# Altium footprint library IC.PcbLib: 67 footprints (part 4 of 5)
Each footprint in its own frame and in the unit in brackets; x right, y up, seen from the top. Pads: shape width x height; smd on the part's side, far side on the other; paste and mask are expansions set on the pad; w line width, h text height; cw(c..) or ccw(c..) is an arc to the next point about the centre after c.
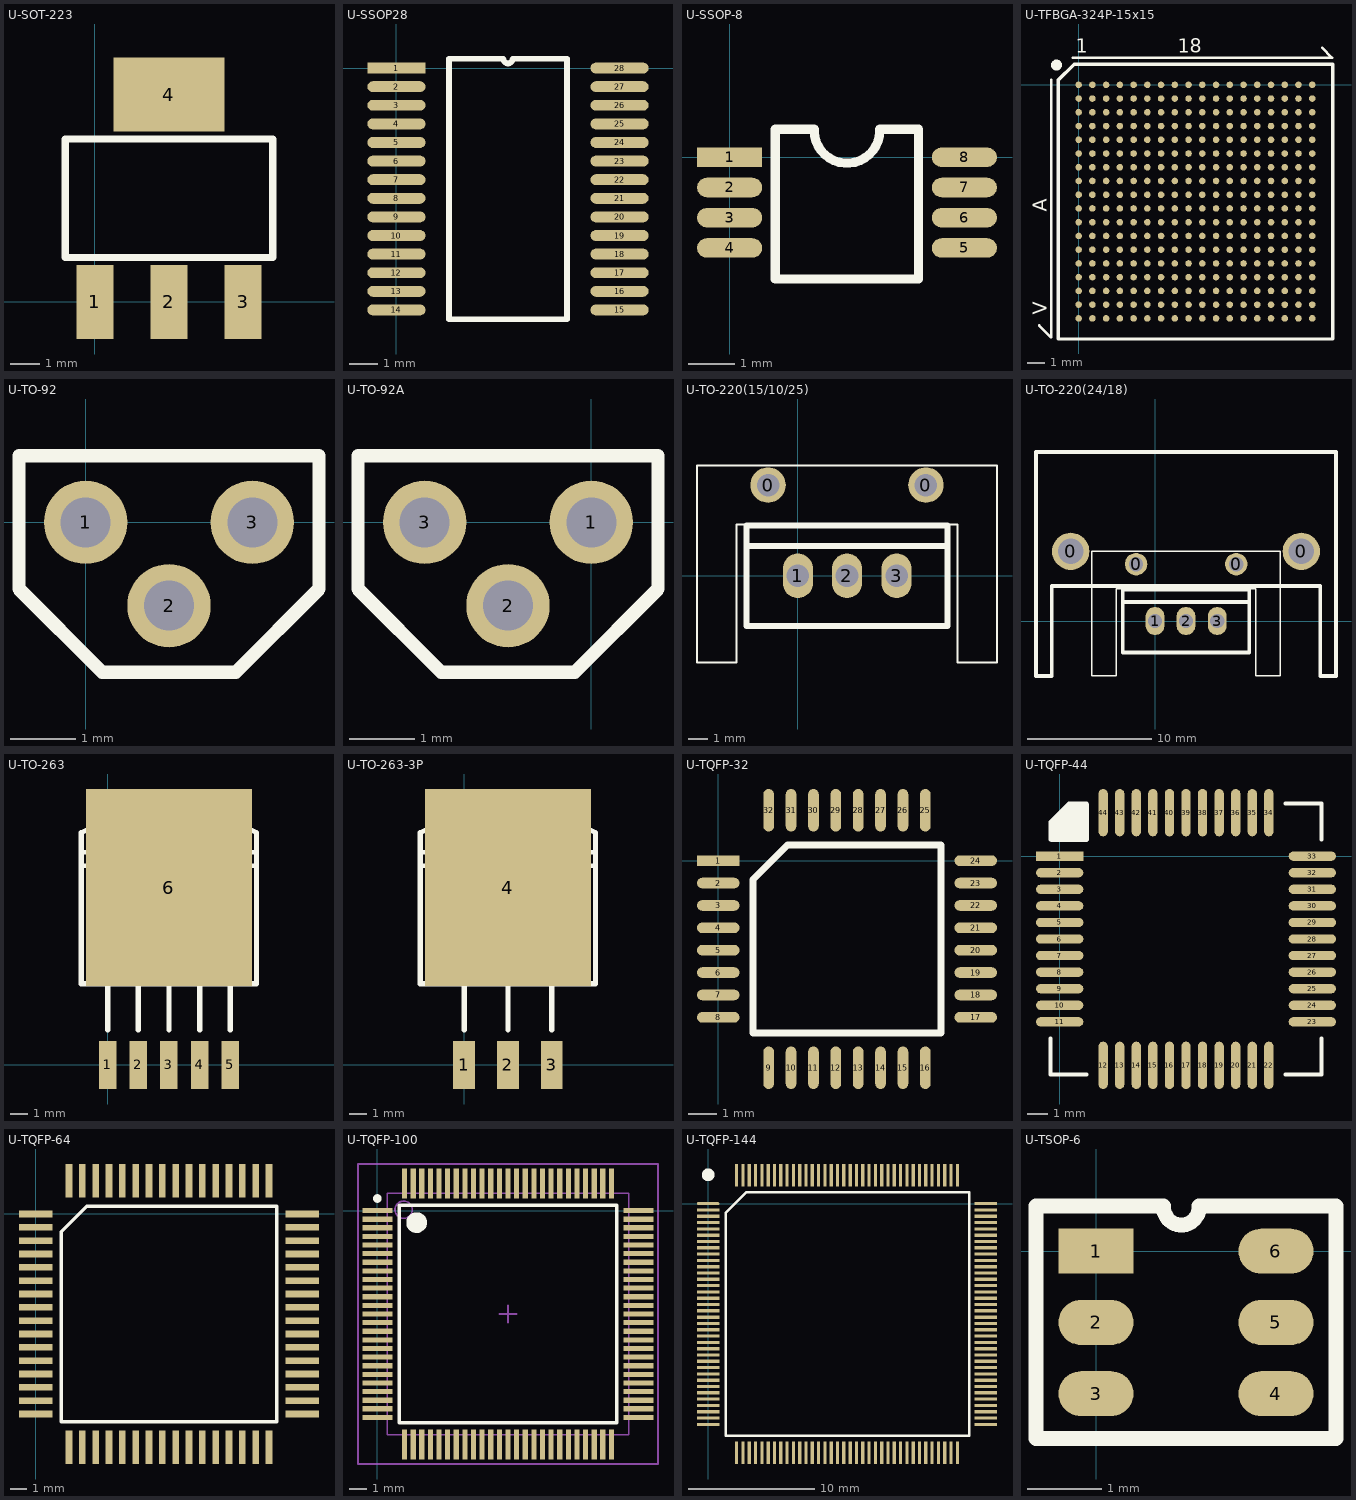
[diagram p3: the footprints below, top view; thin cyan lines are the x and y axes]

## U-SOT-223 [mil]
pads (4):
  rect 50x100 smd: 1(0,0) 2(100,0) 3(200,0)
  rect 150x100 smd: 4(100,280)
Top Overlay:
  lines w10: -40,60 240,60 240,220 -40,220 -40,60
3D body: height 50, standoff 3, extent -36,70 234,210
3D body: height 10, standoff 0, extent -18,-15 16,75
3D body: height 10, standoff 0, extent 82,-15 116,75
3D body: height 10, standoff 0, extent 182,-15 216,75
3D body: height 10, standoff 0, extent 44,205 154,295

## U-SSOP28 [mil]
pads (28):
  rect 80x15 smd: 1(0,0)
  oval 80x15 smd: 2(0,-25.59) 3(0,-51.18) 4(0,-76.77) 5(0,-102.36) 6(0,-127.95) 7(0,-153.54) 8(0,-179.13) 9(0,-204.72) 10(0,-230.32) 11(0,-255.91) 12(0,-281.5) 13(0,-307.09) 14(0,-332.68) 15(307.09,-332.68) 16(307.09,-307.09) 17(307.09,-281.5) 18(307.09,-255.91) 19(307.09,-230.32) 20(307.09,-204.72) 21(307.09,-179.13) 22(307.09,-153.54) 23(307.09,-127.95) 24(307.09,-102.36) 25(307.09,-76.77) 26(307.09,-51.18) 27(307.09,-25.59) 28(307.09,0)
Top Overlay:
  lines w7.87: 72.24,-345.47 234.84,-345.47 234.84,12.8 159.94,12.8 cw(c153.54,12.8) 147.15,12.8 72.24,12.8 72.24,-345.47
3D body: height 59.06, standoff 3.94, extent 72.24,-345.47 234.84,12.8
3D body: height 10, standoff 0, extent -8.5,-6.5 76.5,6.5
3D body: height 10, standoff 0, extent -8.5,-31.5 76.5,-18.5
3D body: height 10, standoff 0, extent -8.5,-57.5 76.5,-44.5
3D body: height 10, standoff 0, extent -8.5,-83.5 76.5,-70.5
3D body: height 10, standoff 0, extent -8.5,-108.5 76.5,-95.5
3D body: height 10, standoff 0, extent -8.5,-133.5 76.5,-120.5
3D body: height 10, standoff 0, extent -8.5,-159.5 76.5,-146.5
3D body: height 10, standoff 0, extent -8.5,-185.5 76.5,-172.5
3D body: height 10, standoff 0, extent -8.5,-210.5 76.5,-197.5
3D body: height 10, standoff 0, extent -8.5,-236.5 76.5,-223.5
3D body: height 10, standoff 0, extent -8.5,-262.5 76.5,-249.5
3D body: height 10, standoff 0, extent -8.5,-287.5 76.5,-274.5
3D body: height 10, standoff 0, extent -8.5,-313.5 76.5,-300.5
3D body: height 10, standoff 0, extent -8.5,-339.5 76.5,-326.5
3D body: height 10, standoff 0, extent 229.5,-339.5 314.5,-326.5
3D body: height 10, standoff 0, extent 229.5,-313.5 314.5,-300.5
3D body: height 10, standoff 0, extent 229.5,-287.5 314.5,-274.5
3D body: height 10, standoff 0, extent 229.5,-261.5 314.5,-248.5
3D body: height 10, standoff 0, extent 229.5,-236.5 314.5,-223.5
3D body: height 10, standoff 0, extent 229.5,-210.5 314.5,-197.5
3D body: height 10, standoff 0, extent 229.5,-185.5 314.5,-172.5
3D body: height 10, standoff 0, extent 229.5,-159.5 314.5,-146.5
3D body: height 10, standoff 0, extent 229.5,-133.5 314.5,-120.5
3D body: height 10, standoff 0, extent 229.5,-108.5 314.5,-95.5
3D body: height 10, standoff 0, extent 229.5,-82.5 314.5,-69.5
3D body: height 10, standoff 0, extent 229.5,-57.5 314.5,-44.5
3D body: height 10, standoff 0, extent 229.5,-31.5 314.5,-18.5
3D body: height 10, standoff 0, extent 229.5,-6.5 314.5,6.5

## U-SSOP-8 [mm]
pads (8):
  rect 1.4x0.42 smd: 1(0,0)
  oval 1.4x0.42 smd: 2(0,-0.65) 3(0,-1.3) 4(0,-1.95) 5(5.05,-1.95) 6(5.05,-1.3) 7(5.05,-0.65) 8(5.05,0)
Top Overlay:
  lines w0.2: 1.819,0.579 ccw(c2.525,0.579) 3.231,0.579 ; 1.819,0.6 0.985,0.6 0.985,-2.616 4.064,-2.616 4.064,0.6 3.231,0.6
3D body "mua08a.stp": height 0.84, standoff -0.12, extent 0.064,-2.464 4.966,0.533

## U-TFBGA-324P-15x15 [mil]
pads (324):
  round 15 smd: A1(0,0) A2(31.5,0) A3(62.99,0) A4(94.49,0) A5(125.98,0) A6(157.48,0) A7(188.98,0) A8(220.47,0) A9(251.97,0) A10(283.46,0) A11(314.96,0) A12(346.46,0) A13(377.95,0) A14(409.45,0) A15(440.95,0) A16(472.44,0) A17(503.94,0) A18(535.43,0) B1(0,-31.5) B2(31.5,-31.5) B3(62.99,-31.5) B4(94.49,-31.5) B5(125.98,-31.5) B6(157.48,-31.5) B7(188.98,-31.5) B8(220.47,-31.5) B9(251.97,-31.5) B10(283.46,-31.5) B11(314.96,-31.5) B12(346.46,-31.5) B13(377.95,-31.5) B14(409.45,-31.5) B15(440.95,-31.5) B16(472.44,-31.5) B17(503.94,-31.5) B18(535.43,-31.5) C1(0,-62.99) C2(31.5,-62.99) C3(62.99,-62.99) C4(94.49,-62.99) C5(125.98,-62.99) C6(157.48,-62.99) C7(188.98,-62.99) C8(220.47,-62.99) C9(251.97,-62.99) C10(283.46,-62.99) C11(314.96,-62.99) C12(346.46,-62.99) C13(377.95,-62.99) C14(409.45,-62.99) C15(440.95,-62.99) C16(472.44,-62.99) C17(503.94,-62.99) C18(535.43,-62.99) D1(0,-94.49) D2(31.5,-94.49) D3(62.99,-94.49) D4(94.49,-94.49) D5(125.98,-94.49) D6(157.48,-94.49) D7(188.98,-94.49) D8(220.47,-94.49) D9(251.97,-94.49) D10(283.46,-94.49) D11(314.96,-94.49) D12(346.46,-94.49) D13(377.95,-94.49) D14(409.45,-94.49) D15(440.95,-94.49) D16(472.44,-94.49) D17(503.94,-94.49) D18(535.43,-94.49) E1(0,-125.98) E2(31.5,-125.98) E3(62.99,-125.98) E4(94.49,-125.98) E5(125.98,-125.98) E6(157.48,-125.98) E7(188.98,-125.98) E8(220.47,-125.98) E9(251.97,-125.98) E10(283.46,-125.98) E11(314.96,-125.98) E12(346.46,-125.98) E13(377.95,-125.98) E14(409.45,-125.98) E15(440.95,-125.98) E16(472.44,-125.98) E17(503.94,-125.98) E18(535.43,-125.98) F1(0,-157.48) F2(31.5,-157.48) F3(62.99,-157.48) F4(94.49,-157.48) F5(125.98,-157.48) F6(157.48,-157.48) F7(188.98,-157.48) F8(220.47,-157.48) F9(251.97,-157.48) F10(283.46,-157.48) F11(314.96,-157.48) F12(346.46,-157.48) F13(377.95,-157.48) F14(409.45,-157.48) F15(440.95,-157.48) F16(472.44,-157.48) F17(503.94,-157.48) F18(535.43,-157.48) G1(0,-188.98) G2(31.5,-188.98) G3(62.99,-188.98) G4(94.49,-188.98) G5(125.98,-188.98) G6(157.48,-188.98) G7(188.98,-188.98) G8(220.47,-188.98) G9(251.97,-188.98) G10(283.46,-188.98) G11(314.96,-188.98) G12(346.46,-188.98) G13(377.95,-188.98) G14(409.45,-188.98) G15(440.95,-188.98) G16(472.44,-188.98) G17(503.94,-188.98) G18(535.43,-188.98) H1(0,-220.47) H2(31.5,-220.47) H3(62.99,-220.47) H4(94.49,-220.47) H5(125.98,-220.47) H6(157.48,-220.47) H7(188.98,-220.47) H8(220.47,-220.47) H9(251.97,-220.47) H10(283.46,-220.47) H11(314.96,-220.47) H12(346.46,-220.47) H13(377.95,-220.47) H14(409.45,-220.47) H15(440.95,-220.47) H16(472.44,-220.47) H17(503.94,-220.47) H18(535.43,-220.47) J1(0,-251.97) J2(31.5,-251.97) J3(62.99,-251.97) J4(94.49,-251.97) J5(125.98,-251.97) J6(157.48,-251.97) J7(188.98,-251.97) J8(220.47,-251.97) J9(251.97,-251.97) J10(283.46,-251.97) J11(314.96,-251.97) J12(346.46,-251.97) J13(377.95,-251.97) J14(409.45,-251.97) J15(440.95,-251.97) J16(472.44,-251.97) J17(503.94,-251.97) J18(535.43,-251.97) K1(0,-283.46) K2(31.5,-283.46) K3(62.99,-283.46) K4(94.49,-283.46) K5(125.98,-283.46) K6(157.48,-283.46) K7(188.98,-283.46) K8(220.47,-283.46) K9(251.97,-283.46) K10(283.46,-283.46) K11(314.96,-283.46) K12(346.46,-283.46) K13(377.95,-283.46) K14(409.45,-283.46) K15(440.95,-283.46) K16(472.44,-283.46) K17(503.94,-283.46) K18(535.43,-283.46) L1(0,-314.96) L2(31.5,-314.96) L3(62.99,-314.96) L4(94.49,-314.96) L5(125.98,-314.96) L6(157.48,-314.96) L7(188.98,-314.96) L8(220.47,-314.96) L9(251.97,-314.96) L10(283.46,-314.96) L11(314.96,-314.96) L12(346.46,-314.96) L13(377.95,-314.96) L14(409.45,-314.96) L15(440.95,-314.96) L16(472.44,-314.96) L17(503.94,-314.96) L18(535.43,-314.96) M1(0,-346.46) M2(31.5,-346.46) M3(62.99,-346.46) M4(94.49,-346.46) M5(125.98,-346.46) M6(157.48,-346.46) M7(188.98,-346.46) M8(220.47,-346.46) M9(251.97,-346.46) M10(283.46,-346.46) M11(314.96,-346.46) M12(346.46,-346.46) M13(377.95,-346.46) M14(409.45,-346.46) M15(440.95,-346.46) M16(472.44,-346.46) M17(503.94,-346.46) M18(535.43,-346.46) N1(0,-377.95) N2(31.5,-377.95) N3(62.99,-377.95) N4(94.49,-377.95) N5(125.98,-377.95) N6(157.48,-377.95) N7(188.98,-377.95) N8(220.47,-377.95) N9(251.97,-377.95) N10(283.46,-377.95) N11(314.96,-377.95) N12(346.46,-377.95) N13(377.95,-377.95) N14(409.45,-377.95) N15(440.95,-377.95) N16(472.44,-377.95) N17(503.94,-377.95) N18(535.43,-377.95) P1(0,-409.45) P2(31.5,-409.45) P3(62.99,-409.45) P4(94.49,-409.45) P5(125.98,-409.45) P6(157.48,-409.45) P7(188.98,-409.45) P8(220.47,-409.45) P9(251.97,-409.45) P10(283.46,-409.45) P11(314.96,-409.45) P12(346.46,-409.45) P13(377.95,-409.45) P14(409.45,-409.45) P15(440.95,-409.45) P16(472.44,-409.45) P17(503.94,-409.45) P18(535.43,-409.45) R1(0,-440.95) R2(31.5,-440.95) R3(62.99,-440.95) R4(94.49,-440.95) R5(125.98,-440.95) R6(157.48,-440.95) R7(188.98,-440.95) R8(220.47,-440.95) R9(251.97,-440.95) R10(283.46,-440.95) R11(314.96,-440.95) R12(346.46,-440.95) R13(377.95,-440.95) R14(409.45,-440.95) R15(440.95,-440.95) R16(472.44,-440.95) R17(503.94,-440.95) R18(535.43,-440.95) T1(0,-472.44) T2(31.5,-472.44) T3(62.99,-472.44) T4(94.49,-472.44) T5(125.98,-472.44) T6(157.48,-472.44) T7(188.98,-472.44) T8(220.47,-472.44) T9(251.97,-472.44) T10(283.46,-472.44) T11(314.96,-472.44) T12(346.46,-472.44) T13(377.95,-472.44) T14(409.45,-472.44) T15(440.95,-472.44) T16(472.44,-472.44) T17(503.94,-472.44) T18(535.43,-472.44) U1(0,-503.94) U2(31.5,-503.94) U3(62.99,-503.94) U4(94.49,-503.94) U5(125.98,-503.94) U6(157.48,-503.94) U7(188.98,-503.94) U8(220.47,-503.94) U9(251.97,-503.94) U10(283.46,-503.94) U11(314.96,-503.94) U12(346.46,-503.94) U13(377.95,-503.94) U14(409.45,-503.94) U15(440.95,-503.94) U16(472.44,-503.94) U17(503.94,-503.94) U18(535.43,-503.94) V1(0,-535.43) V2(31.5,-535.43) V3(62.99,-535.43) V4(94.49,-535.43) V5(125.98,-535.43) V6(157.48,-535.43) V7(188.98,-535.43) V8(220.47,-535.43) V9(251.97,-535.43) V10(283.46,-535.43) V11(314.96,-535.43) V12(346.46,-535.43) V13(377.95,-535.43) V14(409.45,-535.43) V15(440.95,-535.43) V16(472.44,-535.43) V17(503.94,-535.43) V18(535.43,-535.43)
Top Overlay:
  circle w15: c-50.76,45.28 r5
  lines w6: -90.5,-551.5 -63,-579 -63,11 ; -13,62 581,62 558,85
  lines w8: -47.24,-582.68 582.68,-582.68 582.68,47.24 -10.32,47.24 -47.24,10.32 -47.24,-582.68
  text "V               A" at -73,-527 h32
  text "1               18" at -7,73 h32
3D body: height 39.37, standoff 0, extent -39.28,-572.72 572.72,37.28

## U-TO-92 [mil]
pads (3):
  round 50 hole 30: 1(0,0) 2(50,-50) 3(100,0)
Top Overlay:
  lines w8: -40,-40 -40,40 140,40 140,-40 90,-90 10,-90 -40,-40
3D body: height 300, standoff 200, extent -40,-70 141,30
3D body: height 210, standoff -20, extent 90,-9.92 109.96,10
3D body: height 210, standoff -20, extent -10,-9.92 9.96,10
3D body: height 204.75, standoff -22.57, extent 40.04,-80 60,-1.23

## U-TO-92A [mil]
pads (3):
  round 50 hole 30: 1(0,0) 2(-50,-50) 3(-100,0)
Top Overlay:
  lines w8: -140,-40 -140,40 40,40 40,-40 -10,-90 -90,-90 -140,-40
3D body: height 204.75, standoff -22.57, extent -59.96,-80 -40,-1.23
3D body: height 210, standoff -20, extent -110,-9.92 -90.04,10
3D body: height 210, standoff -20, extent -10,-9.92 9.96,10
3D body: height 300, standoff 200, extent -140,-70 41,30

## U-TO-220(15/10/25) [mil]
pads (5):
  round 70.87 hole 45: 0(-59.48,181.1) 0(255.48,181.1)
  oval 60x89 hole 45: 1(0,0) 2(98,0) 3(197,0)
Top Overlay:
  lines w4: -201.21,-173.23 -201.21,220.47 397.21,220.47 397.21,-173.23 318.47,-173.23 318.47,102.36 -122.47,102.36 -122.47,-173.23 -201.21,-173.23
  lines w12: -102,60 298,60 ; -102,-100 -102,100 298,100 298,-100 -102,-100
3D body: height 984.25, standoff 0, extent -201.19,-173.21 397.19,220.45
3D body: height 550, standoff 150, extent -101,-79 299,101
3D body: height 850, standoff 550, extent -101,61 299,101
3D body: height 150, standoff -40, extent -21,-4 19,6
3D body: height 150, standoff -40, extent 77,-4 117,6
3D body: height 150, standoff -40, extent 176,-4 216,6

## U-TO-220(24/18) [mil]
pads (7):
  round 118.11 hole 80: 0(-267,220.5) 0(463,220.5)
  round 70.87 hole 45: 0(-60,180) 0(257,180)
  oval 60x89 hole 45: 1(0,0) 2(98,0) 3(197,0)
Top Overlay:
  lines w4: -201.21,-173.23 -122.47,-173.23 -122.47,102.36 318.47,102.36 318.47,-173.23 397.21,-173.23 397.21,220.47 -201.21,220.47 -201.21,-173.23
  lines w12: -102,-100 298,-100 ; -102,-100 -102,100 ; -102,-100 298,-100 ; -102,-100 -102,100 ; -102,100 298,100 ; -102,100 298,100 ; 298,-100 298,100 ; 298,-100 298,100 ; -377,-174.5 -377,535.5 573,535.5 573,-174.5 523,-174.5 523,110.5 -327,110.5 -327,-174.5 -377,-174.5 ; -102,60 298,60 -102,60
3D body: height 150, standoff -40, extent 176,-4 216,6
3D body: height 150, standoff -40, extent 77,-4 117,6
3D body: height 150, standoff -40, extent -21,-4 19,6
3D body: height 850, standoff 550, extent -101,61 299,101
3D body: height 550, standoff 150, extent -101,-79 299,101
3D body: height 984.25, standoff 0, extent -201.19,-173.21 397.19,220.45
3D body: height 984.25, standoff 0, extent -380,-169.96 569.96,540
3D body: height 150, standoff -40, extent 176,-4 216,6
3D body: height 150, standoff -40, extent 77,-4 117,6
3D body: height 150, standoff -40, extent -21,-4 19,6
3D body: height 850, standoff 550, extent -101,61 299,101
3D body: height 550, standoff 150, extent -101,-79 299,101

## U-TO-263 [mil]
pads (6):
  rect 40x110 smd: 1(0,0) 2(70,0) 3(140,0) 4(210,0) 5(280,0)
  rect 380x450 smd: 6(140.07,404.76)
Top Overlay:
  circle w10: c8.79,260 r21.21
  lines w10: -60,455 340,455 ; -60,485 340,485
  lines w12: 0,80 0,180 ; 70,80 70,180 ; 140,80 140,180 ; 210,80 210,180 ; 280,80 280,180 ; -60,185 340,185 340,530 270,565 10,565 -60,530 -60,185
3D body: height 10, standoff 0, extent 265,-14 296,191
3D body: height 10, standoff 0, extent 195.5,-14 226.5,191
3D body: height 10, standoff 0, extent 125,-14 156,191
3D body: height 10, standoff 0, extent 54.5,-14.5 85.5,190.5
3D body: height 59.06, standoff 3.94, extent -60,185 340,565
3D body: height 10, standoff 0, extent -15,-14 16,191

## U-TO-263-3P [mil]
pads (4):
  rect 50x110 smd: 1(0,0) 2(100,0) 3(200,0)
  rect 380x450 smd: 4(100.07,404.76)
Top Overlay:
  circle w10: c-31.21,260 r21.21
  lines w10: -100,455 300,455 ; -100,485 300,485
  lines w12: 0,80 0,180 ; 100,80 100,180 ; 200,80 200,180 ; -100,185 300,185 300,530 230,565 -30,565 -100,530 -100,185
3D body: height 10, standoff 0, extent 185,-14 216,191
3D body: height 10, standoff 0, extent 85,-14 116,191
3D body: height 59.06, standoff 3.94, extent -100,185 300,565
3D body: height 10, standoff 0, extent -15,-14 16,191

## U-TQFP-32 [mil]
pads (32):
  rect 60x15 smd: 1(0,0)
  oval 60x15 smd: 2(0,-31.5) 3(0,-62.99) 4(0,-94.49) 5(0,-125.98) 6(0,-157.48) 7(0,-188.98) 8(0,-220.47) 17(362.2,-220.47) 18(362.2,-188.98) 19(362.2,-157.48) 20(362.2,-125.98) 21(362.2,-94.49) 22(362.2,-62.99) 23(362.2,-31.5) 24(362.2,0)
  oval 15x60 smd: 9(70.87,-291.34) 10(102.36,-291.34) 11(133.86,-291.34) 12(165.35,-291.34) 13(196.85,-291.34) 14(228.35,-291.34) 15(259.84,-291.34) 16(291.34,-291.34) 25(291.34,70.87) 26(259.84,70.87) 27(228.35,70.87) 28(196.85,70.87) 29(165.35,70.87) 30(133.86,70.87) 31(102.36,70.87) 32(70.87,70.87)
Top Overlay:
  lines w10: 48.62,-242.72 48.62,-26.38 97.24,22.24 313.58,22.24 313.58,-242.72 48.62,-242.72
3D body: height 59.06, standoff 3.94, extent 0,-291 363,71

## U-TQFP-44 [mm]
pads (44):
  rect 2.286x0.45 smd: 1(0,0)
  oval 2.286x0.45 smd: 2(0,-0.8) 3(0,-1.6) 4(0,-2.4) 5(0,-3.2) 6(0,-4) 7(0,-4.8) 8(0,-5.6) 9(0,-6.4) 10(0,-7.2) 11(0,-8) 23(12.2,-8) 24(12.2,-7.2) 25(12.2,-6.4) 26(12.2,-5.6) 27(12.2,-4.8) 28(12.2,-4) 29(12.2,-3.2) 30(12.2,-2.4) 31(12.2,-1.6) 32(12.2,-0.8) 33(12.2,0)
  oval 0.45x2.286 smd: 12(2.1,-10.1) 13(2.9,-10.1) 14(3.7,-10.1) 15(4.5,-10.1) 16(5.3,-10.1) 17(6.1,-10.1) 18(6.9,-10.1) 19(7.7,-10.1) 20(8.5,-10.1) 21(9.3,-10.1) 22(10.1,-10.1) 34(10.1,2.1) 35(9.3,2.1) 36(8.5,2.1) 37(7.7,2.1) 38(6.9,2.1) 39(6.1,2.1) 40(5.3,2.1) 41(4.5,2.1) 42(3.7,2.1) 43(2.9,2.1) 44(2.1,2.1)
Top Overlay:
  lines w0.2: -0.45,-8.8 -0.45,-10.55 1.3,-10.55 ; -0.45,0.8 -0.45,1.65 0.45,2.55 1.3,2.55 ; 10.9,-10.55 12.65,-10.55 12.65,-8.8 ; 10.9,2.55 12.65,2.55 12.65,0.8
  lines w0.254: 0.6,1.6 0.4,1.4 0.2,1.4 0.7,1.4 0.7,2 0,1.3 0,1.2 0.9,1.2 0.9,2.2 0.6,2.2 -0.2,1.4 -0.2,1 1.1,1 1.1,2.4 0.5,2.4 -0.4,1.5 -0.4,0.8 1.3,0.8 1.3,2.5
3D body: height 1.5, standoff 0.1, extent 0.008,-10.109 12.217,2.108

## U-TQFP-64 [mm]
pads (64):
  rect 2x0.406 smd: 1(0,0) 2(0,-0.8) 3(0,-1.6) 4(0,-2.4) 5(0,-3.2) 6(0,-4) 7(0,-4.8) 8(0,-5.6) 9(0,-6.4) 10(0,-7.2) 11(0,-8) 12(0,-8.8) 13(0,-9.6) 14(0,-10.4) 15(0,-11.2) 16(0,-12) 33(16,-12) 34(16,-11.2) 35(16,-10.4) 36(16,-9.6) 37(16,-8.8) 38(16,-8) 39(16,-7.2) 40(16,-6.4) 41(16,-5.6) 42(16,-4.8) 43(16,-4) 44(16,-3.2) 45(16,-2.4) 46(16,-1.6) 47(16,-0.8) 48(16,0)
  rect 0.406x2 smd: 17(2,-14) 18(2.8,-14) 19(3.6,-14) 20(4.4,-14) 21(5.2,-14) 22(6,-14) 23(6.8,-14) 24(7.6,-14) 25(8.4,-14) 26(9.2,-14) 27(10,-14) 28(10.8,-14) 29(11.6,-14) 30(12.4,-14) 31(13.2,-14) 32(14,-14) 49(14,2) 50(13.2,2) 51(12.4,2) 52(11.6,2) 53(10.8,2) 54(10,2) 55(9.2,2) 56(8.4,2) 57(7.6,2) 58(6.8,2) 59(6,2) 60(5.2,2) 61(4.4,2) 62(3.6,2) 63(2.8,2) 64(2,2)
Top Overlay:
  lines w0.2: 1.535,-12.465 14.465,-12.465 14.465,0.465 3.07,0.465 1.535,-1.07 1.535,-12.465
3D body: height 1.5, standoff 0.1, extent 0.025,-14.072 16.027,2.032

## U-TQFP-100 [mm] "TSQFP, 100-Leads, Body 16.2x16.2mm (max), Pitch 0.50mm, IPC Medium Density"
height 1.6
pads (100):
  rect 1.75x0.3 smd: 1(0,0) 2(0,-0.5) 3(0,-1) 4(0,-1.5) 5(0,-2) 6(0,-2.5) 7(0,-3) 8(0,-3.5) 9(0,-4) 10(0,-4.5) 11(0,-5) 12(0,-5.5) 13(0,-6) 14(0,-6.5) 15(0,-7) 16(0,-7.5) 17(0,-8) 18(0,-8.5) 19(0,-9) 20(0,-9.5) 21(0,-10) 22(0,-10.5) 23(0,-11) 24(0,-11.5) 25(0,-12) 51(15.15,-12) 52(15.15,-11.5) 53(15.15,-11) 54(15.15,-10.5) 55(15.15,-10) 56(15.15,-9.5) 57(15.15,-9) 58(15.15,-8.5) 59(15.15,-8) 60(15.15,-7.5) 61(15.15,-7) 62(15.15,-6.5) 63(15.15,-6) 64(15.15,-5.5) 65(15.15,-5) 66(15.15,-4.5) 67(15.15,-4) 68(15.15,-3.5) 69(15.15,-3) 70(15.15,-2.5) 71(15.15,-2) 72(15.15,-1.5) 73(15.15,-1) 74(15.15,-0.5) 75(15.15,0)
  rect 0.3x1.75 smd: 26(1.575,-13.575) 27(2.075,-13.575) 28(2.575,-13.575) 29(3.075,-13.575) 30(3.575,-13.575) 31(4.075,-13.575) 32(4.575,-13.575) 33(5.075,-13.575) 34(5.575,-13.575) 35(6.075,-13.575) 36(6.575,-13.575) 37(7.075,-13.575) 38(7.575,-13.575) 39(8.075,-13.575) 40(8.575,-13.575) 41(9.075,-13.575) 42(9.575,-13.575) 43(10.075,-13.575) 44(10.575,-13.575) 45(11.075,-13.575) 46(11.575,-13.575) 47(12.075,-13.575) 48(12.575,-13.575) 49(13.075,-13.575) 50(13.575,-13.575) 76(13.575,1.575) 77(13.075,1.575) 78(12.575,1.575) 79(12.075,1.575) 80(11.575,1.575) 81(11.075,1.575) 82(10.575,1.575) 83(10.075,1.575) 84(9.575,1.575) 85(9.075,1.575) 86(8.575,1.575) 87(8.075,1.575) 88(7.575,1.575) 89(7.075,1.575) 90(6.575,1.575) 91(6.075,1.575) 92(5.575,1.575) 93(5.075,1.575) 94(4.575,1.575) 95(4.075,1.575) 96(3.575,1.575) 97(3.075,1.575) 98(2.575,1.575) 99(2.075,1.575) 100(1.575,1.575)
Top Overlay:
  circle w0.25: c0,0.7 r0.125
  circle w0.6: c2.275,-0.7 r0.3
  lines w0.2: 1.275,-12.3 1.275,0.3 13.875,0.3 13.875,-12.3 1.275,-12.3
Mechanical 13:
  circle w0.1: c1.525,0.05 r0.5
  lines w0.1: 0.575,-13 0.575,1 14.575,1 14.575,-13 0.575,-13
Mechanical 15:
  lines w0.1: 7.075,-6 8.075,-6 ; 7.575,-6.5 7.575,-5.5 ; -1.125,-14.7 -1.125,2.7 16.275,2.7 16.275,-14.7 -1.125,-14.7
3D body: height 1.6, standoff 0.05, extent 0.575,-13 14.575,1

## U-TQFP-144 [mil] "TSQFP, 144-Leads, Body 22.1x22.1mm (max), Pitch 0.50mm, IPC Medium Density"
height 62.99
pads (144):
  oval 70x10 smd: 1(0,0)
  rect 70x10 smd: 2(0,-19.68) 3(0,-39.37) 4(0,-59.05) 5(0,-78.74) 6(0,-98.42) 7(0,-118.11) 8(0,-137.79) 9(0,-157.48) 10(0,-177.16) 11(0,-196.85) 12(0,-216.53) 13(0,-236.22) 14(0,-255.91) 15(0,-275.59) 16(0,-295.27) 17(0,-314.96) 18(0,-334.64) 19(0,-354.33) 20(0,-374.01) 21(0,-393.7) 22(0,-413.38) 23(0,-433.07) 24(0,-452.75) 25(0,-472.44) 26(0,-492.12) 27(0,-511.81) 28(0,-531.5) 29(0,-551.18) 30(0,-570.87) 31(0,-590.55) 32(0,-610.24) 33(0,-629.92) 34(0,-649.61) 35(0,-669.29) 36(0,-688.98) 73(866.46,-688.98) 74(866.46,-669.29) 75(866.46,-649.61) 76(866.46,-629.92) 77(866.46,-610.24) 78(866.46,-590.55) 79(866.46,-570.87) 80(866.46,-551.18) 81(866.46,-531.5) 82(866.46,-511.81) 83(866.46,-492.12) 84(866.46,-472.44) 85(866.46,-452.75) 86(866.46,-433.07) 87(866.46,-413.38) 88(866.46,-393.7) 89(866.46,-374.01) 90(866.46,-354.33) 91(866.46,-334.64) 92(866.46,-314.96) 93(866.46,-295.27) 94(866.46,-275.59) 95(866.46,-255.91) 96(866.46,-236.22) 97(866.46,-216.53) 98(866.46,-196.85) 99(866.46,-177.16) 100(866.46,-157.48) 101(866.46,-137.79) 102(866.46,-118.11) 103(866.46,-98.42) 104(866.46,-78.74) 105(866.46,-59.05) 106(866.46,-39.37) 107(866.46,-19.68) 108(866.46,0)
  rect 10x70 smd: 37(88.74,-777.72) 38(108.43,-777.72) 39(128.11,-777.72) 40(147.8,-777.72) 41(167.48,-777.72) 42(187.17,-777.72) 43(206.85,-777.72) 44(226.54,-777.72) 45(246.22,-777.72) 46(265.91,-777.72) 47(285.59,-777.72) 48(305.28,-777.72) 49(324.96,-777.72) 50(344.65,-777.72) 51(364.33,-777.72) 52(384.02,-777.72) 53(403.7,-777.72) 54(423.39,-777.72) 55(443.07,-777.72) 56(462.76,-777.72) 57(482.44,-777.72) 58(502.13,-777.72) 59(521.81,-777.72) 60(541.5,-777.72) 61(561.18,-777.72) 62(580.87,-777.72) 63(600.55,-777.72) 64(620.24,-777.72) 65(639.92,-777.72) 66(659.61,-777.72) 67(679.29,-777.72) 68(698.98,-777.72) 69(718.66,-777.72) 70(738.35,-777.72) 71(758.03,-777.72) 72(777.72,-777.72) 109(777.72,88.74) 110(758.03,88.74) 111(738.35,88.74) 112(718.66,88.74) 113(698.98,88.74) 114(679.29,88.74) 115(659.61,88.74) 116(639.92,88.74) 117(620.24,88.74) 118(600.55,88.74) 119(580.87,88.74) 120(561.18,88.74) 121(541.5,88.74) 122(521.81,88.74) 123(502.13,88.74) 124(482.44,88.74) 125(462.76,88.74) 126(443.07,88.74) 127(423.39,88.74) 128(403.7,88.74) 129(384.02,88.74) 130(364.33,88.74) 131(344.65,88.74) 132(324.96,88.74) 133(305.28,88.74) 134(285.59,88.74) 135(265.91,88.74) 136(246.22,88.74) 137(226.54,88.74) 138(206.85,88.74) 139(187.17,88.74) 140(167.48,88.74) 141(147.8,88.74) 142(128.11,88.74) 143(108.43,88.74) 144(88.74,88.74)
Top Overlay:
  circle w20: c0,90 r10
  lines w7.87: 55,-725 815,-725 815,35 118.03,35 55,-28.03 55,-725
3D body: height 78.74, standoff 0, extent 60,-715 805,30

## U-TSOP-6 [mm]
pads (6):
  rect 1x0.6 smd: 1(0,0)
  oval 1x0.6 smd: 2(0,-0.95) 3(0,-1.9) 4(2.4,-1.9) 5(2.4,-0.95) 6(2.4,0)
Top Overlay:
  lines w0.2: -0.8,-2.5 -0.8,0.6 0.9,0.6 ccw(c1.138,0.587) 1.375,0.6 3.2,0.6 3.2,-2.5 -0.8,-2.5